# EAGLE library part ICM20948 (library TDK)
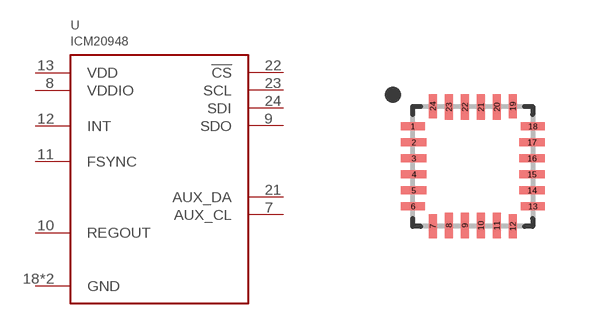
[diagram p0: symbol with the pads of QFN24; footprint QFN24]

Designator prefix U

## ICM20948  [QFN24]
7  AUX_CL
8  VDDIO
9  SDO
10  REGOUT
11  FSYNC
12  INT
13  VDD
18  GND
20  GND
21  AUX_DA
22  !CS
23  SCL
24  SDI

## Footprint QFN24 (pad centres in mm)
smd 0.6 x 0.2: 1 -1.5,1; 6 -1.5,-1; 13 1.5,-1; 18 1.5,1
smd 0.64 x 0.2: 2 -1.48,0.6; 3 -1.48,0.2; 4 -1.48,-0.2; 5 -1.48,-0.6; 14 1.48,-0.6; 15 1.48,-0.2; 16 1.48,0.2; 17 1.48,0.6
smd 0.2 x 0.6: 7 -1,-1.5; 12 1,-1.5; 19 1,1.5; 24 -1,1.5
smd 0.2 x 0.64: 8 -0.6,-1.48; 9 -0.2,-1.48; 10 0.2,-1.48; 11 0.6,-1.48; 20 0.6,1.48; 21 0.2,1.48; 22 -0.2,1.48; 23 -0.6,1.48